# EAGLE library part 396_8P (library 396_conn)
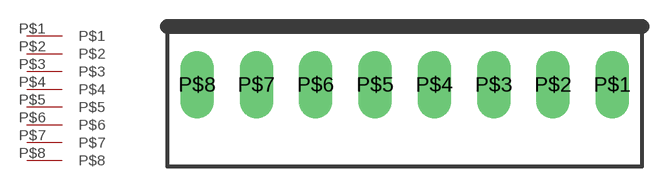
[diagram p7: symbol with the pads of 396_8P; footprint 396_8P]

Designator prefix -

## 396_8P  [396_8P]
P$1  P$1
P$2  P$2
P$3  P$3
P$4  P$4
P$5  P$5
P$6  P$6
P$7  P$7
P$8  P$8

## Footprint 396_8P (pad centres in mm)
drill 1.5 long: P$1 13.86,0; P$2 9.9,0; P$3 5.94,0; P$4 1.98,0; P$5 -1.98,0; P$6 -5.94,0; P$7 -9.9,0; P$8 -13.86,0